# Altium integrated library BNO085.IntLib: 1 symbol
Pins are listed as number, name and electrical type; pins without a type are passive.

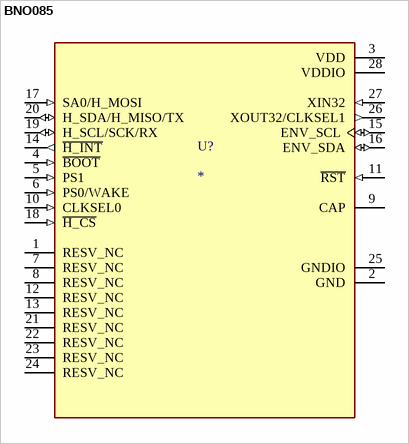
[diagram p0: symbol BNO085]

## BNO085
designator U?
Accelerometer, Gyroscope, Magnetometer, 9 Axis Sensor IÂ²C, SPI, UART Output; MF: Hillcrest Laboratories,; MP: BNO085; SnapEDA_Link: https://www.snapeda.com/parts/BNO085/Hillcrest+Laboratories%252C+Inc./view-part/?ref=snap; Package: TFLGA-28 Hillcrest Laboratories; Value: *; Check_prices: https://www.snapeda.com/parts/BNO085/Hillcrest+Laboratories%252C+Inc./view-part/?ref=eda
footprint IC_BNO085
pins: 1 RESV_NC, 2 GND (power), 3 VDD (power), 4 ~{BOOT} (in), 5 PS1 (in), 6 PS0/WAKE (in), 7 RESV_NC, 8 RESV_NC, 9 CAP, 10 CLKSEL0 (in), 11 ~{RST} (in), 12 RESV_NC, 13 RESV_NC, 14 ~{H_INT} (out), 15 ENV_SCL (io), 16 ENV_SDA (io), 17 SA0/H_MOSI (in), 18 ~{H_CS} (in), 19 H_SCL/SCK/RX (io), 20 H_SDA/H_MISO/TX (io), 21 RESV_NC, 22 RESV_NC, 23 RESV_NC, 24 RESV_NC, 25 GNDIO (power), 26 XOUT32/CLKSEL1 (out), 27 XIN32 (in), 28 VDDIO (power)